# Altium footprint library UCC28180-V02.PcbLib: 43 footprints (part 2 of 3)
Each footprint in its own frame and in the unit in brackets; x right, y up, seen from the top. Pads: shape width x height; smd on the part's side, far side on the other; paste and mask are expansions set on the pad; w line width, h text height; cw(c..) or ccw(c..) is an arc to the next point about the centre after c.
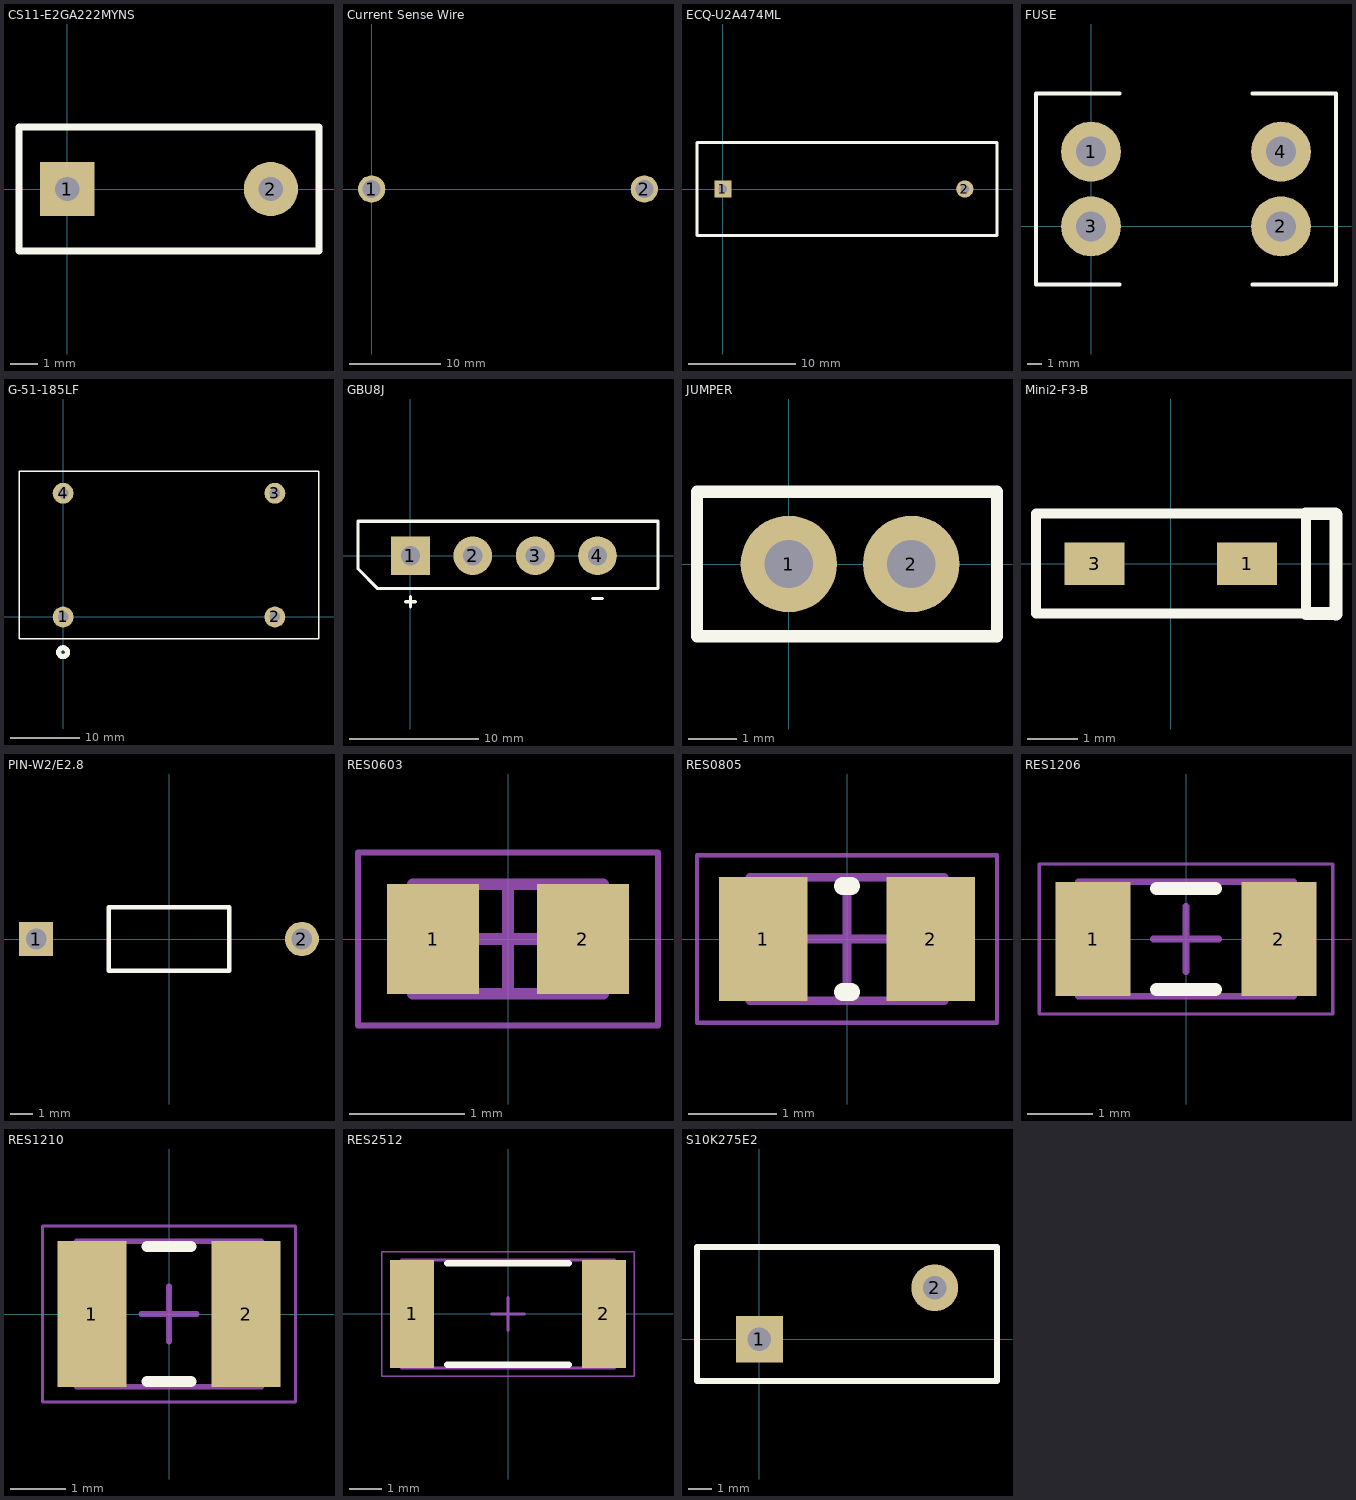
[diagram p1: the footprints below, top view; thin cyan lines are the x and y axes]

## CS11-E2GA222MYNS [mm] "Disc Cap"
pads (2):
  rect 2x2 hole 0.9: 1(0,0)
  round 2 hole 0.9: 2(7.5,0)
Top Overlay:
  lines w0.254: -1.778,-2.286 9.271,-2.286 9.271,2.286 -1.778,2.286 -1.778,-2.286

## Current Sense Wire [mm]
pads (2):
  round 3 hole 2: 1(0,0) 2(30,0)

## ECQ-U2A474ML [mm] "Film Capacitor"
pads (2):
  rect 1.6x1.6 hole 0.8: 1(0,0)
  round 1.6 hole 0.8: 2(22.5,0)
Top Overlay:
  lines w0.254: -2.413,-4.318 -2.413,4.318 25.492,4.318 25.492,-4.318 -2.413,-4.318

## FUSE [mm]
pads (4):
  round 4 hole 2: 1(0,5) 2(12.7,0) 3(0,0) 4(12.7,5)
Top Overlay:
  lines w0.254: 1.905,-3.89 -3.685,-3.89 -3.685,3.3 -3.685,8.89 1.905,8.89 ; 10.795,-3.89 16.385,-3.89 16.385,8.89 10.795,8.89

## G-51-185LF [mm] "Inductor"
pads (4):
  round 3 hole 1.5: 1(0,0) 2(30.48,0) 3(30.48,17.8) 4(0,17.8)
Top Overlay:
  circle w0.75: c0,-5.08 r0.635
  lines w0.2: -6.35,-3.175 -6.35,0 -6.35,17.78 -6.35,20.955 36.83,20.955 36.83,17.78 36.83,0 36.83,-3.175 30.48,-3.175 -6.35,-3.175

## GBU8J [mm] "Bridge rectifier"
pads (4):
  rect 3x3 hole 1.5: 1(0,0)
  round 3 hole 1.5: 2(4.83,0) 3(9.66,0) 4(14.49,0)
Top Overlay:
  lines w0.254: -0.381,-3.556 0.381,-3.556 ; 0,-3.937 0,-3.175 ; 14.097,-3.302 14.859,-3.302 ; -4.064,-1.016 -2.54,-2.54 19.177,-2.54 19.177,2.667 13.303,2.667 2.318,2.667 -4.064,2.667 -4.064,-1.016

## JUMPER [mm] "JUMPER"
pads (2):
  round 2 hole 1: 1(0,0) 2(2.54,0)
Top Overlay:
  lines w0.254: -1.905,-1.5 -1.905,1.5 4.318,1.5 4.318,-1.5 -1.905,-1.5
3D body "Pitch-2.54mm.stp": height 3, standoff -3, extent -1.154,-1.175 3.846,1.175

## Mini2-F3-B [mm] "Schottky Diode"
pads (2):
  rect 1.2x0.85 smd: 1(1.525,0) 3(-1.525,0)
Top Overlay:
  lines w0.2: -2.7,-1 -2.7,0 -2.7,1 2.7,1 2.7,-1 -2.7,-1
  lines w0.254: 2.7,-1 3.286,-1 3.302,-1.016 3.302,0.984 3.286,1 2.7,1

## PIN-W2/E2.8 [mm] "Thru-Hole; 2 Leads"
pads (2):
  rect 1.5x1.5 hole 0.9: 1(-5.825,0)
  round 1.5 hole 0.9: 2(5.825,0)
Top Overlay:
  lines w0.2: -2.65,-1.4 2.65,-1.4 2.65,1.4 -2.65,1.4 -2.65,-1.4

## RES0603 [mm]
height 0.5
pads (2):
  rect 0.8x0.95 smd: 1(-0.65,0) 2(0.65,0)
Mechanical 13:
  lines w0.1: -0.825,-0.475 -0.825,0.475 0.825,0.475 0.825,-0.475 -0.825,-0.475
Mechanical 15:
  lines w0.05: -1.3,-0.75 -1.3,0.75 1.3,0.75 1.3,-0.75 -1.3,-0.75
  lines w0.1: -0.475,0 0.475,0 ; 0,-0.475 0,0.475
3D body: height 0.5, standoff 0, extent -0.525,-0.475 0.525,0.475
3D body: height 0.5, standoff 0, extent -0.825,-0.475 -0.525,0.475
3D body: height 0.5, standoff 0, extent 0.525,-0.475 0.825,0.475

## RES0805 [mm]
height 0.5
pads (2):
  rect 1x1.4 smd: 1(-0.95,0) 2(0.95,0)
Top Overlay:
  lines w0.2: -0.05,-0.6 0.05,-0.6 ; -0.05,0.6 0.05,0.6
Mechanical 13:
  lines w0.1: -1.1,-0.7 1.1,-0.7 1.1,0.7 -1.1,0.7 -1.1,-0.7
Mechanical 15:
  lines w0.05: -1.7,-0.95 1.7,-0.95 1.7,0.95 -1.7,0.95 -1.7,-0.95
  lines w0.1: -0.5,0 0.5,0 ; 0,-0.5 0,0.5
3D body: height 0.5, standoff 0, extent 0.75,-0.7 1.1,0.7
3D body: height 0.5, standoff 0, extent -1.1,-0.7 -0.75,0.7
3D body: height 0.5, standoff 0, extent -0.75,-0.7 0.75,0.7

## RES1206 [mm]
height 0.5
pads (2):
  rect 1.15x1.75 smd: 1(-1.425,0) 2(1.425,0)
Top Overlay:
  lines w0.2: -0.45,-0.775 0.45,-0.775 ; -0.45,0.775 0.45,0.775
Mechanical 13:
  lines w0.1: -1.65,-0.875 -1.65,0.875 1.65,0.875 1.65,-0.875 -1.65,-0.875
Mechanical 15:
  lines w0.05: -2.25,-1.15 -2.25,1.15 2.25,1.15 2.25,-1.15 -2.25,-1.15
  lines w0.1: -0.5,0 0.5,0 ; 0,-0.5 0,0.5
3D body: height 0.5, standoff 0, extent -1.2,-0.875 1.2,0.875
3D body: height 0.5, standoff 0, extent -1.65,-0.875 -1.2,0.875
3D body: height 0.5, standoff 0, extent 1.2,-0.875 1.65,0.875

## RES1210 [mm] "Chip Resistor"
height 2
pads (2):
  rect 1.25x2.65 smd: 1(-1.4,0) 2(1.4,0)
Top Overlay:
  lines w0.2: -0.4,-1.225 0.4,-1.225 ; -0.4,1.225 0.4,1.225
Mechanical 13:
  lines w0.1: -1.675,-1.32 -1.675,1.32 1.675,1.32 1.675,-1.32 -1.675,-1.32
Mechanical 15:
  lines w0.05: -2.3,-1.6 -2.3,1.6 2.3,1.6 2.3,-1.6 -2.3,-1.6
  lines w0.1: -0.5,0 0.5,0 ; 0,-0.5 0,0.5
3D body: height 2, standoff 0, extent -1.175,-1.32 1.175,1.32
3D body: height 2, standoff 0, extent -1.675,-1.32 -1.175,1.32
3D body: height 2, standoff 0, extent 1.175,-1.32 1.675,1.32

## RES2512 [mm]
height 0.7
pads (2):
  rect 1.35x3.3 smd: 1(-2.925,0) 2(2.925,0)
Top Overlay:
  lines w0.2: -1.85,-1.55 1.85,-1.55 ; -1.85,1.55 1.85,1.55
Mechanical 13:
  lines w0.1: -3.25,-1.65 -3.25,1.65 3.25,1.65 3.25,-1.65 -3.25,-1.65
Mechanical 15:
  lines w0.05: -3.85,-1.9 -3.85,1.9 3.85,1.9 3.85,-1.9 -3.85,-1.9
  lines w0.1: -0.5,0 0.5,0 ; 0,-0.5 0,0.5
3D body: height 0.7, standoff 0, extent -2.65,-1.65 2.65,1.65
3D body: height 0.7, standoff 0, extent -3.25,-1.65 -2.65,1.65
3D body: height 0.7, standoff 0, extent 2.65,-1.65 3.25,1.65

## S10K275E2 [mm] "Varistor"
pads (2):
  rect 2x2 hole 1: 1(0,0)
  round 2 hole 1: 2(7.5,2.2)
Top Overlay:
  lines w0.254: -2.667,-1.778 -2.667,3.937 10.16,3.937 10.16,-1.778 -2.667,-1.778

## SOD-123FL [mm] "Schottky Diode"